# EAGLE library part OPALKELLY_XEM3010 (library harrison)
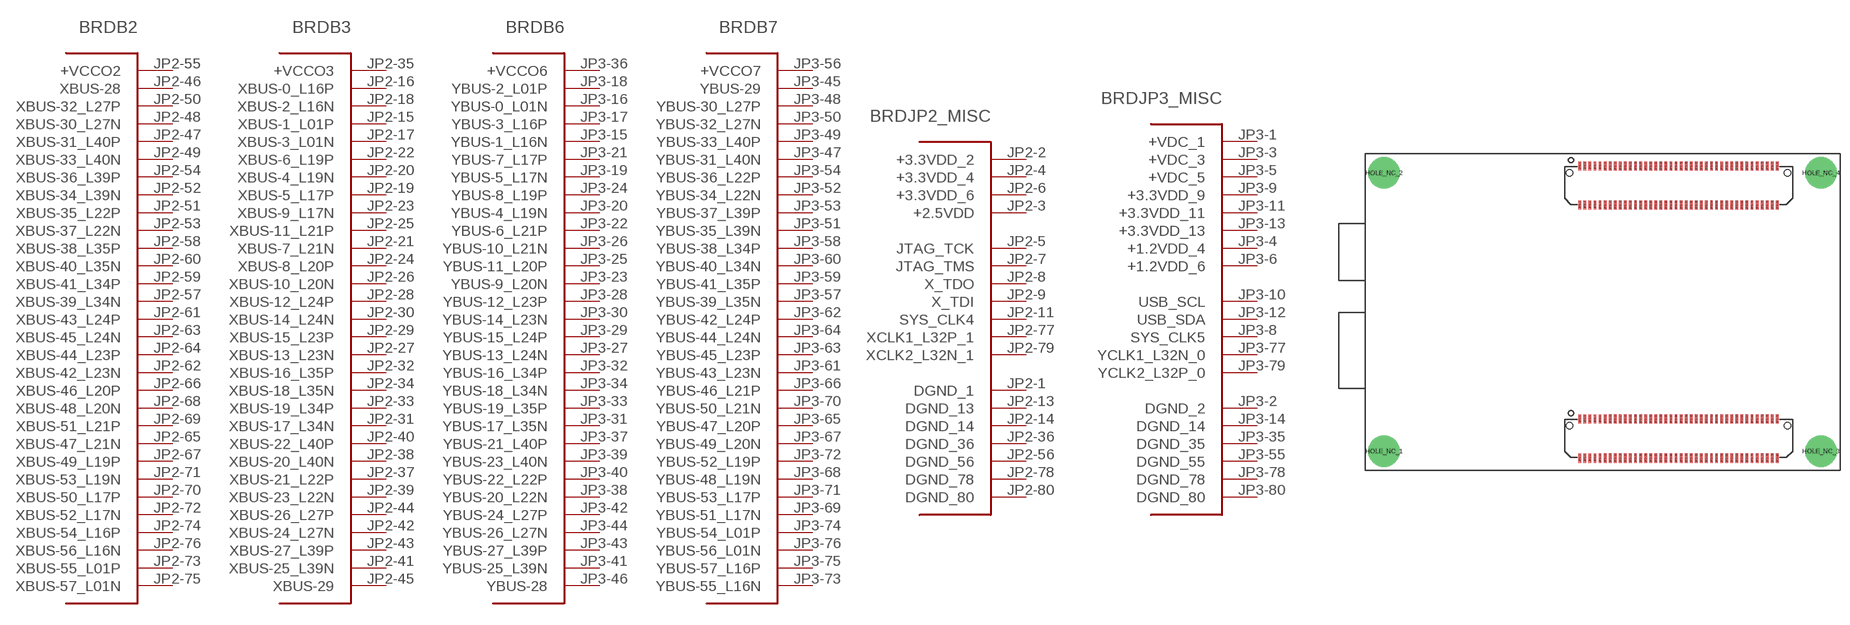
[diagram p72: symbol with the pads of OPALKELLY_XEM3010; footprint OPALKELLY_XEM3010]

Designator prefix BRD; gates B2=XEM3010_JP2_BANK2 B3=XEM3010_JP2_BANK3 B6=XEM3010_JP3_BANK6 B7=XEM3010_JP3_BANK7 JP2_MISC=XEM3010_JP2_MISC JP3_MISC=XEM3010_JP3_MISC

## OPALKELLY_XEM3010  [OPALKELLY_XEM3010]
JP2-1  JP2_MISC:DGND_1  pwr
JP2-2  JP2_MISC:+3.3VDD_2  pwr
JP2-3  JP2_MISC:+2.5VDD  pwr
JP2-4  JP2_MISC:+3.3VDD_4  pwr
JP2-5  JP2_MISC:JTAG_TCK
JP2-6  JP2_MISC:+3.3VDD_6  pwr
JP2-7  JP2_MISC:JTAG_TMS
JP2-8  JP2_MISC:X_TDO
JP2-9  JP2_MISC:X_TDI
JP2-11  JP2_MISC:SYS_CLK4  out
JP2-13  JP2_MISC:DGND_13  pwr
JP2-14  JP2_MISC:DGND_14  pwr
JP2-15  B3:XBUS-1_L01P
JP2-16  B3:XBUS-0_L16P
JP2-17  B3:XBUS-3_L01N
JP2-18  B3:XBUS-2_L16N
JP2-19  B3:XBUS-5_L17P
JP2-20  B3:XBUS-4_L19N
JP2-21  B3:XBUS-7_L21N
JP2-22  B3:XBUS-6_L19P
JP2-23  B3:XBUS-9_L17N
JP2-24  B3:XBUS-8_L20P
JP2-25  B3:XBUS-11_L21P
JP2-26  B3:XBUS-10_L20N
JP2-27  B3:XBUS-13_L23N
JP2-28  B3:XBUS-12_L24P
JP2-29  B3:XBUS-15_L23P
JP2-30  B3:XBUS-14_L24N
JP2-31  B3:XBUS-17_L34N
JP2-32  B3:XBUS-16_L35P
JP2-33  B3:XBUS-19_L34P
JP2-34  B3:XBUS-18_L35N
JP2-35  B3:+VCCO3  pwr
JP2-36  JP2_MISC:DGND_36  pwr
JP2-37  B3:XBUS-21_L22P
JP2-38  B3:XBUS-20_L40N
JP2-39  B3:XBUS-23_L22N
JP2-40  B3:XBUS-22_L40P
JP2-41  B3:XBUS-25_L39N
JP2-42  B3:XBUS-24_L27N
JP2-43  B3:XBUS-27_L39P
JP2-44  B3:XBUS-26_L27P
JP2-45  B3:XBUS-29
JP2-46  B2:XBUS-28
JP2-47  B2:XBUS-31_L40P
JP2-48  B2:XBUS-30_L27N
JP2-49  B2:XBUS-33_L40N
JP2-50  B2:XBUS-32_L27P
JP2-51  B2:XBUS-35_L22P
JP2-52  B2:XBUS-34_L39N
JP2-53  B2:XBUS-37_L22N
JP2-54  B2:XBUS-36_L39P
JP2-55  B2:+VCCO2  pwr
JP2-56  JP2_MISC:DGND_56  pwr
JP2-57  B2:XBUS-39_L34N
JP2-58  B2:XBUS-38_L35P
JP2-59  B2:XBUS-41_L34P
JP2-60  B2:XBUS-40_L35N
JP2-61  B2:XBUS-43_L24P
JP2-62  B2:XBUS-42_L23N
JP2-63  B2:XBUS-45_L24N
JP2-64  B2:XBUS-44_L23P
JP2-65  B2:XBUS-47_L21N
JP2-66  B2:XBUS-46_L20P
JP2-67  B2:XBUS-49_L19P
JP2-68  B2:XBUS-48_L20N
JP2-69  B2:XBUS-51_L21P
JP2-70  B2:XBUS-50_L17P
JP2-71  B2:XBUS-53_L19N
JP2-72  B2:XBUS-52_L17N
JP2-73  B2:XBUS-55_L01P
JP2-74  B2:XBUS-54_L16P
JP2-75  B2:XBUS-57_L01N
JP2-76  B2:XBUS-56_L16N
JP2-77  JP2_MISC:XCLK1_L32P_1  in
JP2-78  JP2_MISC:DGND_78  pwr
JP2-79  JP2_MISC:XCLK2_L32N_1  in
JP2-80  JP2_MISC:DGND_80  pwr
JP3-1  JP3_MISC:+VDC_1  pwr
JP3-2  JP3_MISC:DGND_2  pwr
JP3-3  JP3_MISC:+VDC_3  pwr
JP3-4  JP3_MISC:+1.2VDD_4  pwr
JP3-5  JP3_MISC:+VDC_5  pwr
JP3-6  JP3_MISC:+1.2VDD_6  pwr
JP3-8  JP3_MISC:SYS_CLK5  out
JP3-9  JP3_MISC:+3.3VDD_9  pwr
JP3-10  JP3_MISC:USB_SCL
JP3-11  JP3_MISC:+3.3VDD_11  pwr
JP3-12  JP3_MISC:USB_SDA
JP3-13  JP3_MISC:+3.3VDD_13  pwr
JP3-14  JP3_MISC:DGND_14  pwr
JP3-15  B6:YBUS-1_L16N
JP3-16  B6:YBUS-0_L01N
JP3-17  B6:YBUS-3_L16P
JP3-18  B6:YBUS-2_L01P
JP3-19  B6:YBUS-5_L17N
JP3-20  B6:YBUS-4_L19N
JP3-21  B6:YBUS-7_L17P
JP3-22  B6:YBUS-6_L21P
JP3-23  B6:YBUS-9_L20N
JP3-24  B6:YBUS-8_L19P
JP3-25  B6:YBUS-11_L20P
JP3-26  B6:YBUS-10_L21N
JP3-27  B6:YBUS-13_L24N
JP3-28  B6:YBUS-12_L23P
JP3-29  B6:YBUS-15_L24P
JP3-30  B6:YBUS-14_L23N
JP3-31  B6:YBUS-17_L35N
JP3-32  B6:YBUS-16_L34P
JP3-33  B6:YBUS-19_L35P
JP3-34  B6:YBUS-18_L34N
JP3-35  JP3_MISC:DGND_35  pwr
JP3-36  B6:+VCCO6  pwr
JP3-37  B6:YBUS-21_L40P
JP3-38  B6:YBUS-20_L22N
JP3-39  B6:YBUS-23_L40N
JP3-40  B6:YBUS-22_L22P
JP3-41  B6:YBUS-25_L39N
JP3-42  B6:YBUS-24_L27P
JP3-43  B6:YBUS-27_L39P
JP3-44  B6:YBUS-26_L27N
JP3-45  B7:YBUS-29
JP3-46  B6:YBUS-28
JP3-47  B7:YBUS-31_L40N
JP3-48  B7:YBUS-30_L27P
JP3-49  B7:YBUS-33_L40P
JP3-50  B7:YBUS-32_L27N
JP3-51  B7:YBUS-35_L39N
JP3-52  B7:YBUS-34_L22N
JP3-53  B7:YBUS-37_L39P
JP3-54  B7:YBUS-36_L22P
JP3-55  JP3_MISC:DGND_55  pwr
JP3-56  B7:+VCCO7  pwr
JP3-57  B7:YBUS-39_L35N
JP3-58  B7:YBUS-38_L34P
JP3-59  B7:YBUS-41_L35P
JP3-60  B7:YBUS-40_L34N
JP3-61  B7:YBUS-43_L23N
JP3-62  B7:YBUS-42_L24P
JP3-63  B7:YBUS-45_L23P
JP3-64  B7:YBUS-44_L24N
JP3-65  B7:YBUS-47_L20P
JP3-66  B7:YBUS-46_L21P
JP3-67  B7:YBUS-49_L20N
JP3-68  B7:YBUS-48_L19N
JP3-69  B7:YBUS-51_L17N
JP3-70  B7:YBUS-50_L21N
JP3-71  B7:YBUS-53_L17P
JP3-72  B7:YBUS-52_L19P
JP3-73  B7:YBUS-55_L16N
JP3-74  B7:YBUS-54_L01P
JP3-75  B7:YBUS-57_L16P
JP3-76  B7:YBUS-56_L01N
JP3-77  JP3_MISC:YCLK1_L32N_0  in
JP3-78  JP3_MISC:DGND_78  pwr
JP3-79  JP3_MISC:YCLK2_L32P_0  in
JP3-80  JP3_MISC:DGND_80  pwr

## Footprint OPALKELLY_XEM3010 (pad centres in mm)
drill 2.5 pad 5: HOLE_NC_1 3,3; HOLE_NC_2 3,47; HOLE_NC_3 72,3; HOLE_NC_4 72,47
smd 0.457 x 1.448: JP2-1 33.9,8.086; JP2-2 33.9,1.914; JP2-3 34.7,8.086; JP2-4 34.7,1.914; JP2-5 35.5,8.086; JP2-6 35.5,1.914; JP2-7 36.3,8.086; JP2-8 36.3,1.914; JP2-9 37.1,8.086; JP2-10 37.1,1.914; JP2-11 37.9,8.086; JP2-12 37.9,1.914; JP2-13 38.7,8.086; JP2-14 38.7,1.914; JP2-15 39.5,8.086; JP2-16 39.5,1.914; JP2-17 40.3,8.086; JP2-18 40.3,1.914; JP2-19 41.1,8.086; JP2-20 41.1,1.914; JP2-21 41.9,8.086; JP2-22 41.9,1.914; JP2-23 42.7,8.086; JP2-24 42.7,1.914; JP2-25 43.5,8.086; JP2-26 43.5,1.914; JP2-27 44.3,8.086; JP2-28 44.3,1.914; JP2-29 45.1,8.086; JP2-30 45.1,1.914; JP2-31 45.9,8.086; JP2-32 45.9,1.914; JP2-33 46.7,8.086; JP2-34 46.7,1.914; JP2-35 47.5,8.086; JP2-36 47.5,1.914; JP2-37 48.3,8.086; JP2-38 48.3,1.914; JP2-39 49.1,8.086; JP2-40 49.1,1.914; JP2-41 49.9,8.086; JP2-42 49.9,1.914; JP2-43 50.7,8.086; JP2-44 50.7,1.914; JP2-45 51.5,8.086; JP2-46 51.5,1.914; JP2-47 52.3,8.086; JP2-48 52.3,1.914; JP2-49 53.1,8.086; JP2-50 53.1,1.914; JP2-51 53.9,8.086; JP2-52 53.9,1.914; JP2-53 54.7,8.086; JP2-54 54.7,1.914; JP2-55 55.5,8.086; JP2-56 55.5,1.914; JP2-57 56.3,8.086; JP2-58 56.3,1.914; JP2-59 57.1,8.086; JP2-60 57.1,1.914; JP2-61 57.9,8.086; JP2-62 57.9,1.914; JP2-63 58.7,8.086; JP2-64 58.7,1.914; JP2-65 59.5,8.086; JP2-66 59.5,1.914; JP2-67 60.3,8.086; JP2-68 60.3,1.914; JP2-69 61.1,8.086; JP2-70 61.1,1.914; JP2-71 61.9,8.086; JP2-72 61.9,1.914; JP2-73 62.7,8.086; JP2-74 62.7,1.914; JP2-75 63.5,8.086; JP2-76 63.5,1.914; JP2-77 64.3,8.086; JP2-78 64.3,1.914; JP2-79 65.1,8.086; JP2-80 65.1,1.914; JP3-1 33.9,48.086; JP3-2 33.9,41.914; JP3-3 34.7,48.086; JP3-4 34.7,41.914; JP3-5 35.5,48.086; JP3-6 35.5,41.914; JP3-7 36.3,48.086; JP3-8 36.3,41.914; JP3-9 37.1,48.086; JP3-10 37.1,41.914; JP3-11 37.9,48.086; JP3-12 37.9,41.914; JP3-13 38.7,48.086; JP3-14 38.7,41.914; JP3-15 39.5,48.086; JP3-16 39.5,41.914; JP3-17 40.3,48.086; JP3-18 40.3,41.914; JP3-19 41.1,48.086; JP3-20 41.1,41.914; JP3-21 41.9,48.086; JP3-22 41.9,41.914; JP3-23 42.7,48.086; JP3-24 42.7,41.914; JP3-25 43.5,48.086; JP3-26 43.5,41.914; JP3-27 44.3,48.086; JP3-28 44.3,41.914; JP3-29 45.1,48.086; JP3-30 45.1,41.914; JP3-31 45.9,48.086; JP3-32 45.9,41.914; JP3-33 46.7,48.086; JP3-34 46.7,41.914; JP3-35 47.5,48.086; JP3-36 47.5,41.914; JP3-37 48.3,48.086; JP3-38 48.3,41.914; JP3-39 49.1,48.086; JP3-40 49.1,41.914; JP3-41 49.9,48.086; JP3-42 49.9,41.914; JP3-43 50.7,48.086; JP3-44 50.7,41.914; JP3-45 51.5,48.086; JP3-46 51.5,41.914; JP3-47 52.3,48.086; JP3-48 52.3,41.914; JP3-49 53.1,48.086; JP3-50 53.1,41.914; JP3-51 53.9,48.086; JP3-52 53.9,41.914; JP3-53 54.7,48.086; JP3-54 54.7,41.914; JP3-55 55.5,48.086; JP3-56 55.5,41.914; JP3-57 56.3,48.086; JP3-58 56.3,41.914; JP3-59 57.1,48.086; JP3-60 57.1,41.914; JP3-61 57.9,48.086; JP3-62 57.9,41.914; JP3-63 58.7,48.086; JP3-64 58.7,41.914; JP3-65 59.5,48.086; JP3-66 59.5,41.914; JP3-67 60.3,48.086; JP3-68 60.3,41.914; JP3-69 61.1,48.086; JP3-70 61.1,41.914; JP3-71 61.9,48.086; JP3-72 61.9,41.914; JP3-73 62.7,48.086; JP3-74 62.7,41.914; JP3-75 63.5,48.086; JP3-76 63.5,41.914; JP3-77 64.3,48.086; JP3-78 64.3,41.914; JP3-79 65.1,48.086; JP3-80 65.1,41.914
hole 1.016 at 32.261,47.032
hole 1.016 at 66.739,47.032
hole 1.016 at 32.261,7.032
hole 1.016 at 66.739,7.032